# EAGLE library part 74HC4050D (library 74HC4050D)
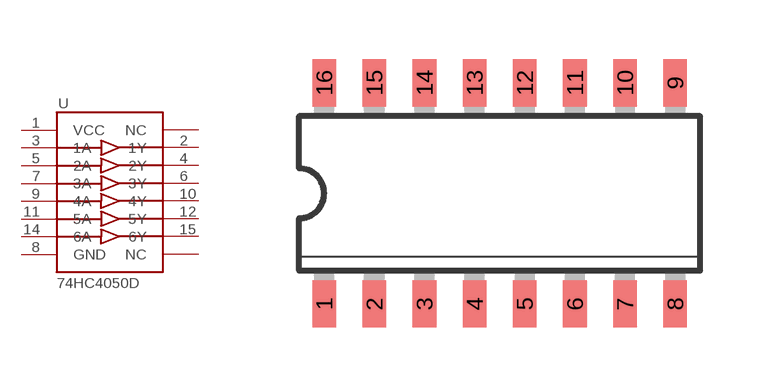
[diagram p0: symbol with the pads of SO16; footprint SO16]

Designator prefix -

## 74HC4050D (Availability: Unavailable; Description: Buffer/Converter 6-CH Non-Inverting 3-ST CMOS 16-Pin SOIC; MF: Toshiba Semiconductor; MP: 74HC4050D; Package: SOIC-16 Toshiba; Price: None)  [SO16]
1  VCC  pwr
2  1Y  out
3  1A  in
4  2Y  out
5  2A  in
6  3Y  out
7  3A  in
8  GND  pwr
9  4A  in
10  4Y  out
11  5A  in
12  5Y  out
13  NC  nc
14  6A  in
15  6Y  out
16  NC  nc

## Footprint SO16 (pad centres in mm)
Small Outline package 150 mil
smd 0.6 x 1.2: 1 -4.445,-2.8; 2 -3.175,-2.8; 3 -1.905,-2.8; 4 -0.635,-2.8; 5 0.635,-2.8; 6 1.905,-2.8; 7 3.175,-2.8; 8 4.445,-2.8; 9 4.445,2.8; 10 3.175,2.8; 11 1.905,2.8; 12 0.635,2.8; 13 -0.635,2.8; 14 -1.905,2.8; 15 -3.175,2.8; 16 -4.445,2.8